# Altium footprint library Connectors.PcbLib: 94 footprints (part 5 of 6)
Each footprint in its own frame and in the unit in brackets; x right, y up, seen from the top. Pads: shape width x height; smd on the part's side, far side on the other; paste and mask are expansions set on the pad; w line width, h text height; cw(c..) or ccw(c..) is an arc to the next point about the centre after c.
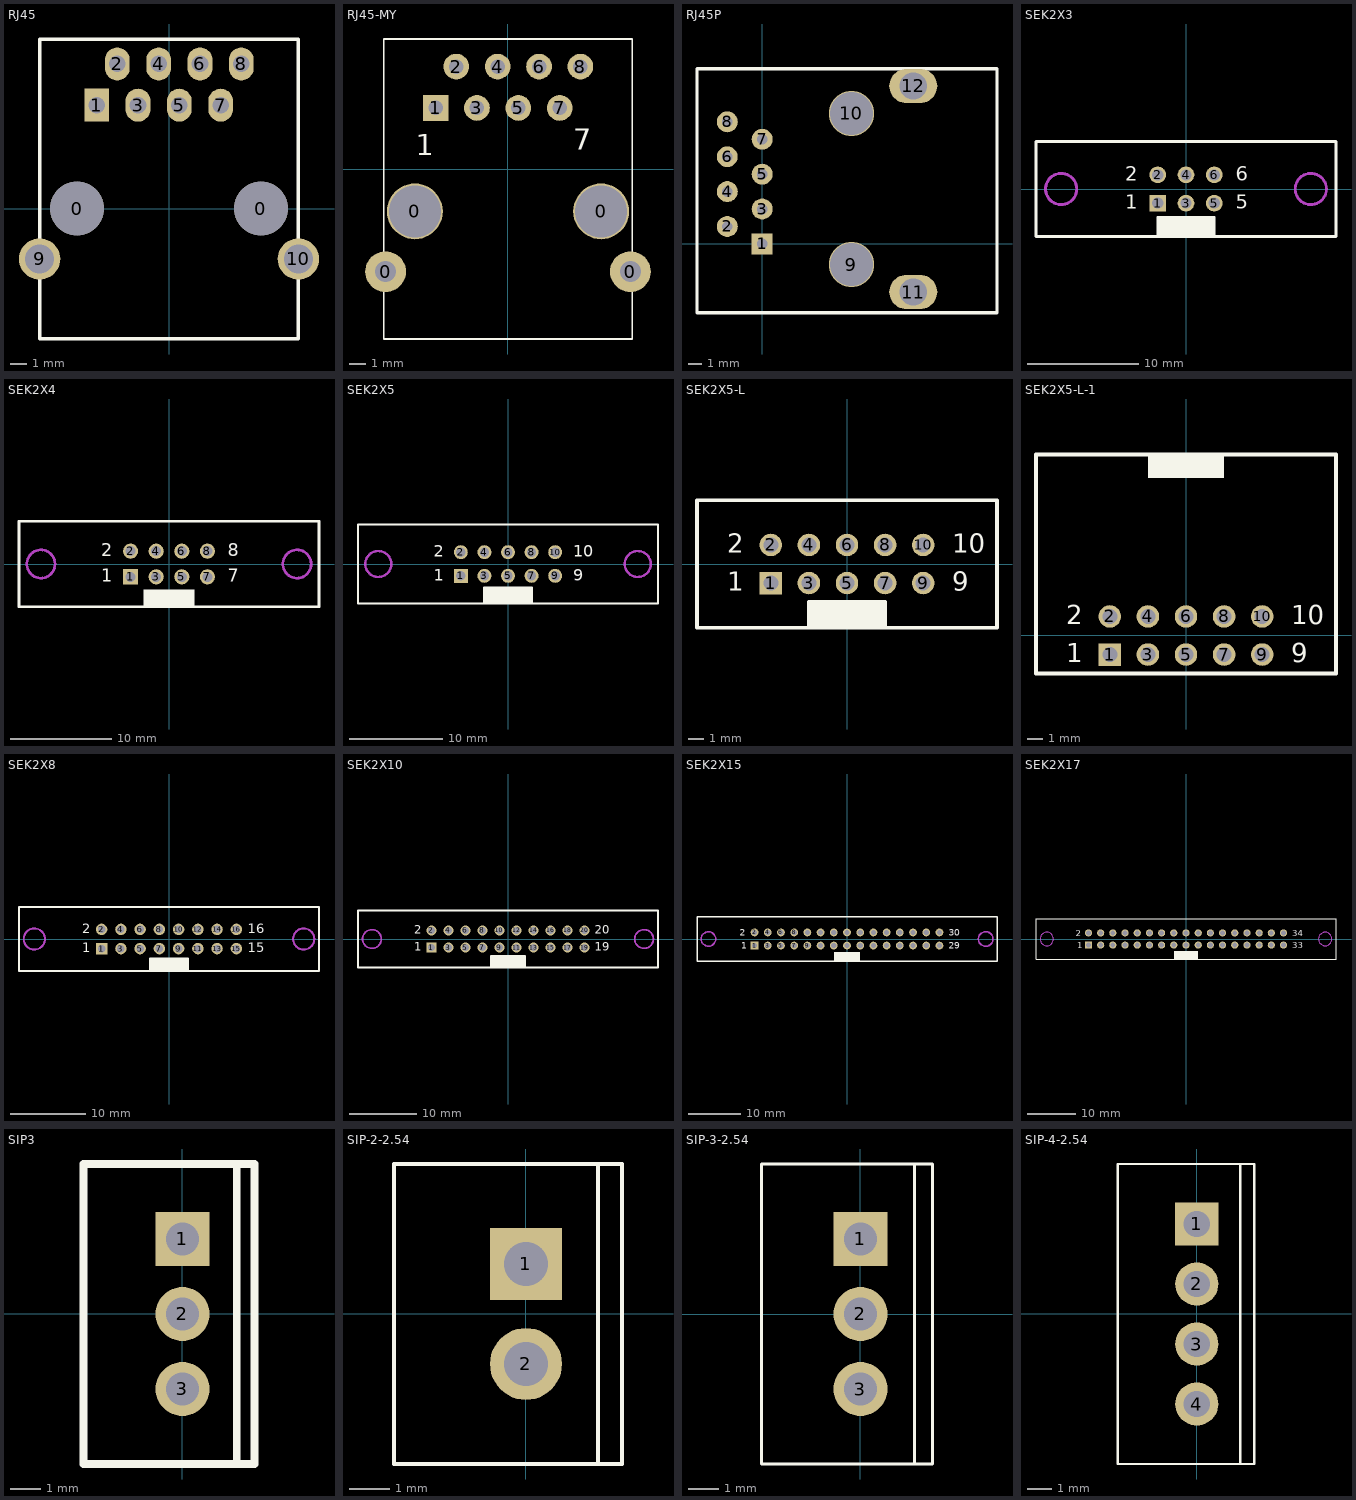
[diagram p4: the footprints below, top view; thin cyan lines are the x and y axes]

## RJ45 [mil]
pads (12):
  round 130 hole 130: 0(-222.44,0) 0(222.44,0)
  rect 60x80 hole 40: 1(-175,250)
  oval 60x80 hole 40: 2(-125,350) 3(-75,250) 4(-25,350) 5(25,250) 6(75,350) 7(125,250) 8(175,350)
  round 100 hole 70: 9(-312.99,-122.05) 10(312.99,-122.05)
Top Overlay:
  lines w7.99: -312.99,-314.96 -312.99,409.45 ; 312.99,-314.96 312.99,409.45
  lines w8: -312.99,-314.96 312.99,-314.96 ; -312.99,409.45 312.99,409.45

## RJ45-MY [mil] "RJ45"
pads (12):
  round 98.42 hole 51.18: 0(-295.87,-247.79) 0(295.87,-247.79)
  round 135 hole 125: 0(-225,-102.21) 0(225,-102.21)
  rect 62x62 hole 35: 1(-175,147.79)
  round 62 hole 35: 2(-125,247.79) 3(-75,147.79) 4(-25,247.79) 5(25,147.79) 6(75,247.79) 7(125,147.79) 8(175,247.79)
Top Overlay:
  lines w3.94: -300,-410.54 300,-410.54 300,314.46 -300,314.46 -300,-410.54
  text "7" at 157.45,46.73 h50
  text "1" at -222.84,33.66 h50

## RJ45P [mil]
pads (12):
  rect 60x60 hole 30: 1(0,0)
  round 60 hole 30: 2(-100,50) 3(0,100) 4(-100,150) 5(0,200) 6(-100.24,250) 7(0,300) 8(-100,350)
  round 129.92 hole 122.05: 9(255.91,-59.05) 10(255.91,374.02)
  oval 137.79x98.42 hole 78.74: 11(433.07,-137.79) 12(433.07,452.76)
Top Overlay:
  lines w10: -186.93,-197.79 -186.93,-177.79 -186.93,502.2 433.07,502.2 673.07,502.2 673.07,-197.79 -186.93,-197.79

## SEK2X3 [mm] "Connector; Header; 3x2 Position"
pads (6):
  rect 1.5x1.5 hole 1: 1(-2.54,-1.27)
  round 1.5 hole 1: 2(-2.54,1.27) 3(0,-1.27) 4(0,1.27) 5(2.54,-1.27) 6(2.54,1.27)
Top Overlay:
  rectangle: -2.54,-4.25 2.54,-2.54
  lines w0.254: -2.54,-4.25 -2.54,-2.54 2.54,-2.54 2.54,-4.25 ; -13.46,-4.25 13.46,-4.25 13.46,4.25 -13.46,4.25 -13.46,-4.25
  text "2" at -5.46,0.762 h1.27
  text "1" at -5.46,-1.778 h1.27
  text "5" at 4.46,-1.778 h1.27
  text "6" at 4.46,0.762 h1.27
Keep-Out Layer:
  circle w0.254: c-11.2,0 r1.4
  circle w0.254: c11.2,0 r1.4
Mechanical 1:
  circle w0.254: c11.2,0 r1.4
  circle w0.254: c-11.2,0 r1.4

## SEK2X4 [mm] "Connector; Header; 4x2 Position"
pads (8):
  rect 1.5x1.5 hole 1: 1(-3.81,-1.27)
  round 1.5 hole 1: 2(-3.81,1.27) 3(-1.27,-1.27) 4(-1.27,1.27) 5(1.27,-1.27) 6(1.27,1.27) 7(3.81,-1.27) 8(3.81,1.27)
Top Overlay:
  rectangle: -2.54,-4.25 2.54,-2.54
  lines w0.254: -14.88,-4.25 -14.88,4.25 14.88,4.25 14.88,-4.25 -14.88,-4.25
  text "8" at 5.842,0.762 h1.27
  text "7" at 5.842,-1.778 h1.27
  text "1" at -6.73,-1.778 h1.27
  text "2" at -6.73,0.762 h1.27
Keep-Out Layer:
  circle w0.254: c12.7,0 r1.4
  circle w0.254: c-12.7,0 r1.4
Mechanical 1:
  circle w0.254: c-12.7,0 r1.4
  circle w0.254: c12.7,0 r1.4

## SEK2X5 [mm] "Connector; Header; 5x2 Position"
pads (10):
  rect 1.5x1.5 hole 1: 1(-5.08,-1.27)
  round 1.5 hole 1: 2(-5.08,1.27) 3(-2.54,-1.27) 4(-2.54,1.27) 5(0,-1.27) 6(0,1.27) 7(2.54,-1.27) 8(2.54,1.27) 9(5.08,-1.27) 10(5.08,1.27)
Top Overlay:
  rectangle: -2.54,-4.25 2.54,-2.54
  lines w0.254: -2.54,-4.25 -2.54,-2.54 2.54,-2.54 2.54,-4.25 ; -16.15,-4.25 -16.15,4.25 16.15,4.25 16.15,-4.25 -16.15,-4.25
  text "10" at 7,0.762 h1.27
  text "9" at 7,-1.778 h1.27
  text "1" at -8,-1.778 h1.27
  text "2" at -8,0.762 h1.27
Keep-Out Layer:
  circle w0.254: c13.97,0 r1.4
  circle w0.254: c-13.97,0 r1.4
Mechanical 1:
  circle w0.254: c-13.97,0 r1.4
  circle w0.254: c13.97,0 r1.4

## SEK2X5-L [mm] "Connector; Header; 5x2 Position"
pads (10):
  rect 1.5x1.5 hole 1: 1(-5.08,-1.27)
  round 1.5 hole 1: 2(-5.08,1.27) 3(-2.54,-1.27) 4(-2.54,1.27) 5(0,-1.27) 6(0,1.27) 7(2.54,-1.27) 8(2.54,1.27) 9(5.08,-1.27) 10(5.08,1.27)
Top Overlay:
  rectangle: -2.54,-4.25 2.54,-2.54
  lines w0.254: -2.54,-4.25 -2.54,-2.54 2.54,-2.54 2.54,-4.25 ; -10,-4.25 10,-4.25 10,4.25 -10,4.25 -10,-4.25
  text "2" at -8,0.762 h1.27
  text "1" at -8,-1.778 h1.27
  text "9" at 7,-1.778 h1.27
  text "10" at 7,0.762 h1.27

## SEK2X5-L-1 [mm] "Connector; Header; 5x2 Position"
pads (10):
  rect 1.5x1.5 hole 1: 1(-5.08,-1.27)
  round 1.5 hole 1: 2(-5.08,1.27) 3(-2.54,-1.27) 4(-2.54,1.27) 5(0,-1.27) 6(0,1.27) 7(2.54,-1.27) 8(2.54,1.27) 9(5.08,-1.27) 10(5.08,1.27)
Top Overlay:
  rectangle: -2.54,10.5 2.54,12
  lines w0.254: -10,-2.54 -10,12.07 10,12.07 10,-2.54 -10,-2.54
  text "10" at 7,0.762 h1.27
  text "9" at 7,-1.778 h1.27
  text "1" at -8,-1.778 h1.27
  text "2" at -8,0.762 h1.27

## SEK2X8 [mm] "Connector; Header; 2X8 Position"
pads (16):
  rect 1.5x1.5 hole 1: 1(-8.89,-1.27)
  round 1.5 hole 1: 2(-8.89,1.27) 3(-6.35,-1.27) 4(-6.35,1.27) 5(-3.81,-1.27) 6(-3.81,1.27) 7(-1.27,-1.27) 8(-1.27,1.27) 9(1.27,-1.27) 10(1.27,1.27) 11(3.81,-1.27) 12(3.81,1.27) 13(6.35,-1.27) 14(6.35,1.27) 15(8.89,-1.27) 16(8.89,1.27)
Top Overlay:
  rectangle: -2.54,-4.25 2.54,-2.54
  lines w0.254: -2.54,-4.25 -2.54,-2.54 2.54,-2.54 2.54,-4.25 ; -19.8,-4.25 -19.8,4.25 19.8,4.25 19.8,-4.25 -19.8,-4.25
  text "16" at 10.414,0.762 h1.27
  text "15" at 10.414,-1.778 h1.27
  text "1" at -11.43,-1.778 h1.27
  text "2" at -11.43,0.762 h1.27
Keep-Out Layer:
  circle w0.254: c17.78,0 r1.4
  circle w0.254: c-17.78,0 r1.4
Mechanical 1:
  circle w0.254: c-17.78,0 r1.4
  circle w0.254: c17.78,0 r1.4

## SEK2X10 [mm] "Connector; Header; 10x2 Position"
pads (20):
  rect 1.5x1.5 hole 1: 1(-11.43,-1.27)
  round 1.5 hole 1: 2(-11.43,1.27) 3(-8.89,-1.27) 4(-8.89,1.27) 5(-6.35,-1.27) 6(-6.35,1.27) 7(-3.81,-1.27) 8(-3.81,1.27) 9(-1.27,-1.27) 10(-1.27,1.27) 11(1.27,-1.27) 12(1.27,1.27) 13(3.81,-1.27) 14(3.81,1.27) 15(6.35,-1.27) 16(6.35,1.27) 17(8.89,-1.27) 18(8.89,1.27) 19(11.43,-1.27) 20(11.43,1.27)
Top Overlay:
  rectangle: -2.54,-4.25 2.54,-2.54
  lines w0.254: -2.54,-4.25 -2.54,-2.54 2.54,-2.54 2.54,-4.25 ; -22.4,-4.25 22.4,-4.25 22.4,4.25 -22.4,4.25 -22.4,-4.25
  text "2" at -13.97,0.762 h1.27
  text "1" at -13.97,-1.778 h1.27
  text "19" at 12.954,-1.778 h1.27
  text "20" at 12.954,0.762 h1.27
Keep-Out Layer:
  circle w0.254: c-20.32,0 r1.4
  circle w0.254: c20.32,0 r1.4
Mechanical 1:
  circle w0.254: c20.32,0 r1.4
  circle w0.254: c-20.32,0 r1.4

## SEK2X15 [mm] "Connector; Header; 15x2 Position"
pads (30):
  rect 1.5x1.5 hole 1: 1(-17.78,-1.27)
  round 1.5 hole 1: 2(-17.78,1.27) 3(-15.24,-1.27) 4(-15.24,1.27) 5(-12.7,-1.27) 6(-12.7,1.27) 7(-10.16,-1.27) 8(-10.16,1.27) 9(-7.62,-1.27) 10(-7.62,1.27) 11(-5.08,-1.27) 12(-5.08,1.27) 13(-2.54,-1.27) 14(-2.54,1.27) 15(0,-1.27) 16(0,1.27) 17(2.54,-1.27) 18(2.54,1.27) 19(5.08,-1.27) 20(5.08,1.27) 21(7.62,-1.27) 22(7.62,1.27) 23(10.16,-1.27) 24(10.16,1.27) 25(12.7,-1.27) 26(12.7,1.27) 27(15.24,-1.27) 28(15.24,1.27) 29(17.78,-1.27) 30(17.78,1.27)
Top Overlay:
  rectangle: -2.5,-4.25 2.5,-2.54
  lines w0.254: -28.85,-4.25 -28.85,4.25 28.85,4.25 28.85,-4.25 -28.85,-4.25
  text "29" at 19.6,-1.9 h1.27
  text "30" at 19.6,0.6 h1.27
  text "1" at -20.3,-1.9 h1.27
  text "2" at -20.6,0.6 h1.27
Keep-Out Layer:
  circle w0.254: c26.67,0 r1.4
  circle w0.254: c-26.67,0 r1.4
Mechanical 1:
  circle w0.254: c-26.67,0 r1.4
  circle w0.254: c26.67,0 r1.4

## SEK2X17 [mm] "Connector; Header; 17x2 Position"
pads (34):
  rect 1.5x1.5 hole 1: 1(-20.32,-1.27)
  round 1.5 hole 1: 2(-20.32,1.27) 3(-17.78,-1.27) 4(-17.78,1.27) 5(-15.24,-1.27) 6(-15.24,1.27) 7(-12.7,-1.27) 8(-12.7,1.27) 9(-10.16,-1.27) 10(-10.16,1.27) 11(-7.62,-1.27) 12(-7.62,1.27) 13(-5.08,-1.27) 14(-5.08,1.27) 15(-2.54,-1.27) 16(-2.54,1.27) 17(0,-1.27) 18(0,1.27) 19(2.54,-1.27) 20(2.54,1.27) 21(5.08,-1.27) 22(5.08,1.27) 23(7.62,-1.27) 24(7.62,1.27) 25(10.16,-1.27) 26(10.16,1.27) 27(12.7,-1.27) 28(12.7,1.27) 29(15.24,-1.27) 30(15.24,1.27) 31(17.78,-1.27) 32(17.78,1.27) 33(20.32,-1.27) 34(20.32,1.27)
Top Overlay:
  rectangle: -2.5,-4.25 2.5,-2.54
  lines w0.254: -31.25,-4.25 -28.85,-4.25 28.85,-4.25 31.25,-4.25 31.25,4.25 28.85,4.25 -28.85,4.25 -31.25,4.25 -31.25,-4.25
  text "2" at -23,0.6 h1.27
  text "1" at -22.7,-1.9 h1.27
  text "34" at 22.1,0.6 h1.27
  text "33" at 22.1,-1.9 h1.27
Keep-Out Layer:
  circle w0.254: c-29,0 r1.4
  circle w0.254: c29,0 r1.4
Mechanical 1:
  circle w0.254: c29,0 r1.4
  circle w0.254: c-29,0 r1.4

## SIP3 [mm]
pads (3):
  rect 1.8x1.8 hole 1.1: 1(0,2.5)
  round 1.8 hole 1.1: 2(0,0) 3(0,-2.5)
Top Overlay:
  lines w0.254: 1.804,-5 1.804,5 ; -3.3,-5 2.4,-5 2.4,5 -3.3,5 -3.3,-5

## SIP-2-2.54 [mm] "SIP-2-2.54"
pads (2):
  rect 1.8x1.8 hole 1.1: 1(0,1.25)
  round 1.8 hole 1.1: 2(0,-1.25)
Top Overlay:
  lines w0.1: 1.804,-3.75 1.804,3.75 ; -3.3,-3.75 -3.3,3.75 2.4,3.75 2.4,-3.75 -3.3,-3.75

## SIP-3-2.54 [mm] "SIP-3-2.54"
pads (3):
  rect 1.8x1.8 hole 1.1: 1(0,2.5)
  round 1.8 hole 1.1: 2(0,0) 3(0,-2.5)
Top Overlay:
  lines w0.1: 1.804,5 1.804,-4.997 1.807,-5 ; -3.3,-5 -3.3,5 2.4,5 2.4,-5 -3.3,-5

## SIP-4-2.54 [mm] "SIP-4-2.54"
pads (4):
  rect 1.8x1.8 hole 1.1: 1(0,3.75)
  round 1.8 hole 1.1: 2(0,1.25) 3(0,-1.25) 4(0,-3.75)
Top Overlay:
  lines w0.1: 1.804,-6.25 1.804,6.25 ; 1.804,-3.747 1.807,-3.75 ; -3.3,-6.25 -3.3,6.25 2.4,6.25 2.4,-6.25 -3.3,-6.25